# EAGLE library part EC11E15244B2 (library EC11E15244B2)
Rotary Encoder Mechanical 15 Quadrature (Incremental) Vertical Source: Datasheet <https://tech.alpsalpine.com/e/products/detail/EC11E15244B2/>
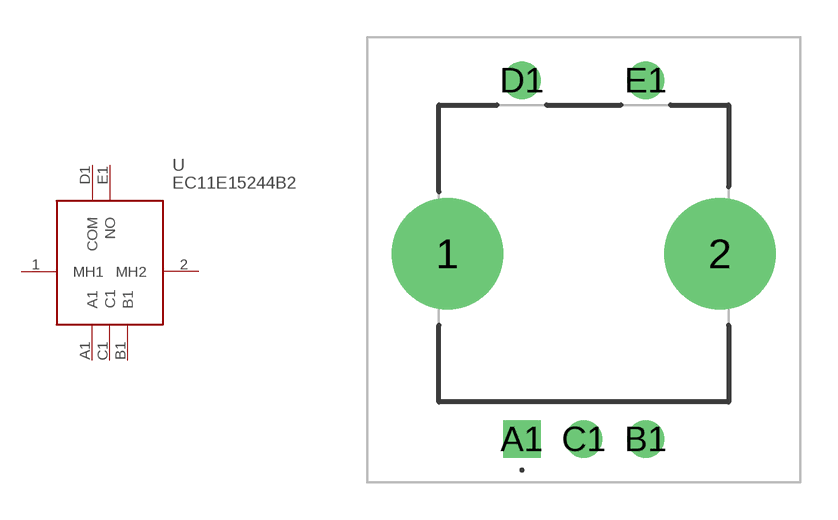
[diagram p0: symbol with the pads of EC11E15244B2; footprint EC11E15244B2]

Designator prefix U

## EC11E15244B2 (Description: Rotary Encoder Mechanical 15 Quadrature (Incremental) Vertical; Height: 24.5mm; Manufacturer_Name: ALPS Electric; Manufacturer_Part_Number: EC11E15244B2)  [EC11E15244B2]
1  MH1
2  MH2
A1  A1
B1  B1
C1  C1
D1  COM
E1  NO

## Footprint EC11E15244B2 (pad centres in mm)
EC11E15244B2-1
drill 3 pad 4.5: 1 -3,7.5; 2 8,7.5
drill 1 pad 1.5 square: A1 0,0
drill 1 pad 1.5: B1 5,0; C1 2.5,0; D1 0,14.5; E1 5,14.5